# Altium schematic symbol library Schlib1.SchLib: 1 symbol
Pins are listed as number, name and electrical type; pins without a type are passive.

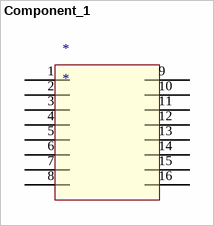
[diagram p0: symbol Component_1]

## Component_1
designator *
pins: 1, 2, 3 8, 4 9, 5, 6, 7, 8, 9, 10, 11, 12, 13, 14, 15, 16